# EAGLE library part RS485 (library RS485)
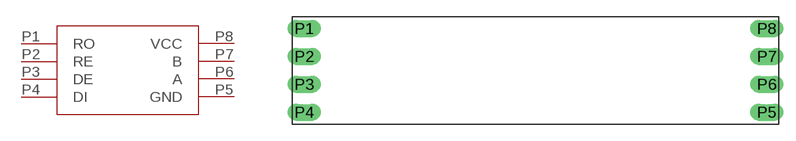
[diagram p0: symbol with the pads of RS485; footprint RS485]

Designator prefix -

## RS485  [RS485]
P1  RO
P2  RE
P3  DE
P4  DI
P5  GND
P6  A
P7  B
P8  VCC

## Footprint RS485 (pad centres in mm)
drill 1.016 long: P1 -20.32,3.81; P2 -20.32,1.27; P3 -20.32,-1.27; P4 -20.32,-3.81; P5 21.641,-3.81; P6 21.641,-1.27; P7 21.641,1.27; P8 21.641,3.81